# EAGLE library part TVS_USB_TPD4S012 (library leaf)
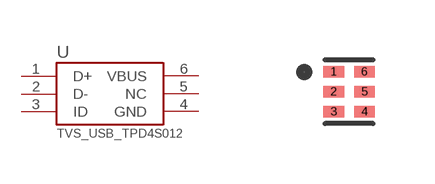
[diagram p15: symbol with the pads of USB_TVS_TPD4S012; footprint USB_TVS_TPD4S012]

Designator prefix U

## TVS_USB_TPD4S012  [USB_TVS_TPD4S012]
1  D+
2  D-
3  ID
4  GND
5  NC
6  VBUS

## Footprint USB_TVS_TPD4S012 (pad centres in mm)
smd 0.52 x 0.3: 1 -0.385,0.5; 2 -0.385,0; 3 -0.385,-0.5; 4 0.385,-0.5; 5 0.385,0; 6 0.385,0.5